# EAGLE library part SD_CARD_READER_BREAKOUT_2X8-PIN-FEMALE-HEADER (library myLib-01-Headers)
Header for the SD card reader 2x8 pin breakout Female https://robu.in/product/sd-card-reading-writing-module-arduino/ https://tronixlabs.com.au/news/tutorial-using-sd-card-breakout-boards-with-arduino/
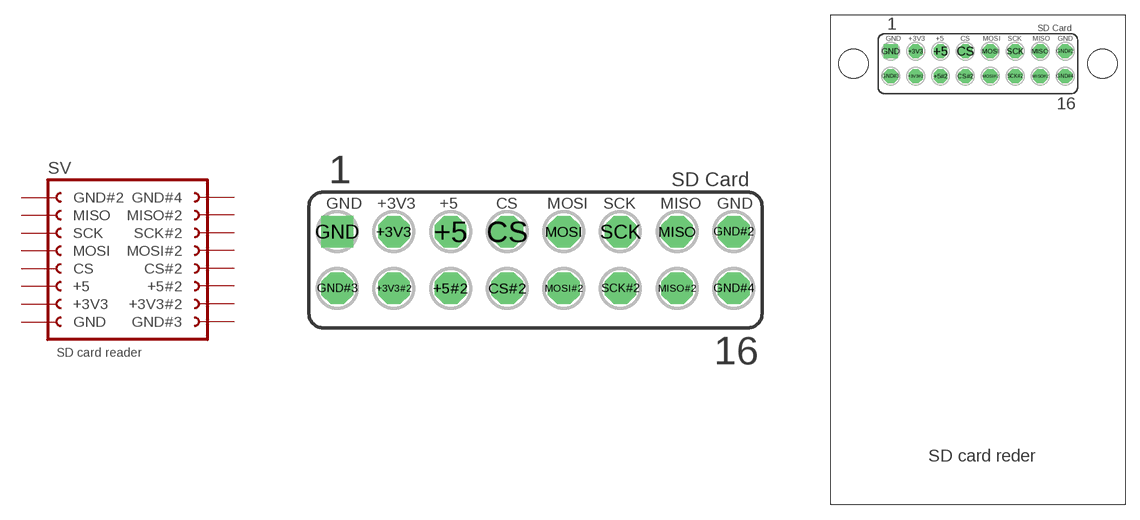
[diagram p4: symbol with the pads of SD_CARD_READER_BREAKOUT_2X8-PIN-FEMALE-HEADER; footprints SD_CARD_READER_BREAKOUT_2X8-PIN-FEMALE-HEADER, SD_CARD_READER_BREAKOUT_2X8-PIN-FEMALE-HEADER_W_MOUNT_HOLES]

Designator prefix SV

## SD_CARD_READER_BREAKOUT_2X8-PIN-FEMALE-HEADER (OC_FARNELL: unknown; OC_NEWARK: unknown)  [SD_CARD_READER_BREAKOUT_2X8-PIN-FEMALE-HEADER]
+3V3  +3V3  pas
+3V3#2  +3V3#2  pas
+5  +5  pas
+5#2  +5#2  pas
CS  CS  pas
CS#2  CS#2  pas
GND  GND  pas
GND#2  GND#2  pas
GND#3  GND#3  pas
GND#4  GND#4  pas
MISO  MISO  pas
MISO#2  MISO#2  pas
MOSI  MOSI  pas
MOSI#2  MOSI#2  pas
SCK  SCK  pas
SCK#2  SCK#2  pas

## SD_CARD_READER_BREAKOUT_2X8-PIN-FEMALE-HEADERW_MOUNT_HOLES  [SD_CARD_READER_BREAKOUT_2X8-PIN-FEMALE-HEADER_W_MOUNT_HOLES]
Pads as for SD_CARD_READER_BREAKOUT_2X8-PIN-FEMALE-HEADER

## Footprint SD_CARD_READER_BREAKOUT_2X8-PIN-FEMALE-HEADER (pad centres in mm)
FEMALE HEADER
drill 0.914 octagon: +3V3 2.54,0; +3V3#2 2.54,-2.54; +5 5.08,0; +5#2 5.08,-2.54; CS 7.62,0; CS#2 7.62,-2.54; GND#2 17.78,0; GND#3 0,-2.54; GND#4 17.78,-2.54; MISO 15.24,0; MISO#2 15.24,-2.54; MOSI 10.16,0; MOSI#2 10.16,-2.54; SCK 12.7,0; SCK#2 12.7,-2.54
drill 0.914 pad 1.27 square: GND 0,0

## Footprint SD_CARD_READER_BREAKOUT_2X8-PIN-FEMALE-HEADER_W_MOUNT_HOLES (pad centres in mm)
FEMALE HEADER With mount holes
drill 0.914 octagon: +3V3 2.54,0; +3V3#2 2.54,-2.54; +5 5.08,0; +5#2 5.08,-2.54; CS 7.62,0; CS#2 7.62,-2.54; GND#2 17.78,0; GND#3 0,-2.54; GND#4 17.78,-2.54; MISO 15.24,0; MISO#2 15.24,-2.54; MOSI 10.16,0; MOSI#2 10.16,-2.54; SCK 12.7,0; SCK#2 12.7,-2.54
drill 0.914 pad 1.27 square: GND 0,0
hole 3 at -3.81,-1.27
hole 3 at 21.59,-1.27